# Altium footprint library SnapEDApcb.PcbLib: 1 footprints
Each footprint in its own frame and in the unit in brackets; x right, y up, seen from the top. Pads: shape width x height; smd on the part's side, far side on the other; paste and mask are expansions set on the pad; w line width, h text height; cw(c..) or ccw(c..) is an arc to the next point about the centre after c.
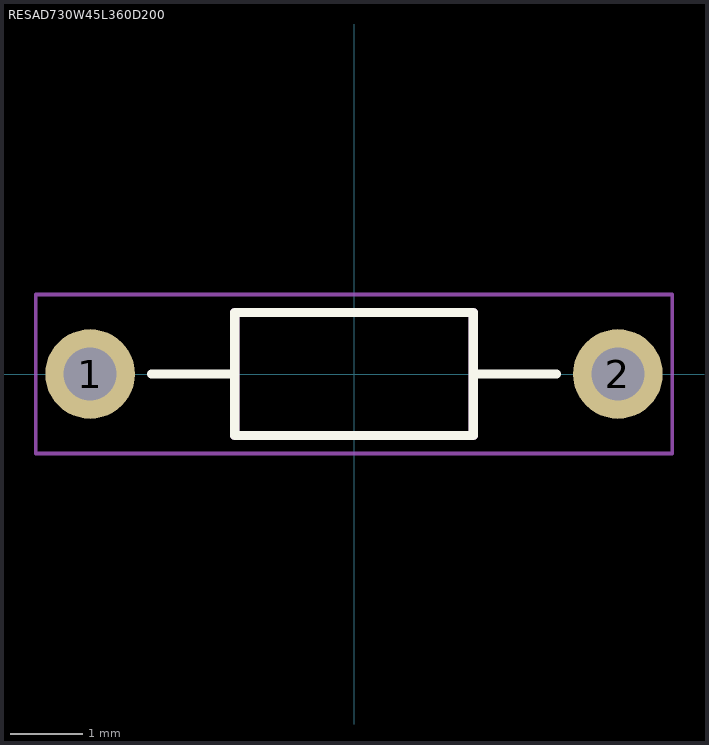
[diagram p0: the footprint, top view; thin cyan lines are the x and y axes]

## RESAD730W45L360D200 [mm]
pads (2):
  round 1.238 hole 0.73: 1(-3.65,0) 2(3.65,0)
Top Overlay:
  lines w0.127: -2.8,0 -1.65,0 ; 2.8,0 1.65,0 ; -1.65,0 -1.65,-0.85 1.65,-0.85 1.65,0 ; -1.65,0 -1.65,0.85 1.65,0.85 1.65,0
Mechanical 13:
  lines w0.127: -1.65,-0.85 1.65,-0.85 1.65,0.85 -1.65,0.85 -1.65,-0.85
Mechanical 15:
  lines w0.05: -4.4,-1.1 4.4,-1.1 4.4,1.1 -4.4,1.1 -4.4,-1.1